# Altium schematic symbol library lm3886 Schlib.SchLib: 7 symbols
Pins are listed as number, name and electrical type; pins without a type are passive.

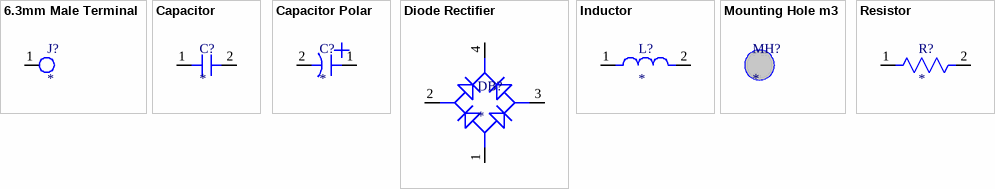
[diagram p0: symbols 6.3mm Male Terminal to Resistor]

## 6.3mm Male Terminal
designator J?
footprint Terminal 6.3mm male
pins: 1

## Capacitor
designator C?
footprint Capacitor P5 5x7.5mm
footprint Capacitor P5 2.4x4.4mm
footprint Capacitor P5 3x7.5mm
footprint Capacitor P15 7.2x18.3mm
pins: 1, 2

## Capacitor Polar
designator C?
footprint Capacitor electrolytic 5x11mm
footprint Capacitor electrolytic 10x16mm
footprint Capacitor electrolytic 16x21mm
footprint Capacitor electrolytic 25x41mm
footprint Capacitor electrolytic 6x11mm
pins: 1, 2

## Diode Rectifier
designator DB?
footprint KBPC rectifier
pins: 1, 2, 3, 4

## Inductor
designator L?
footprint Inductor p9
footprint Inductor p10
footprint Inductor p26
pins: 1, 2

## Mounting Hole m3
designator MH?
footprint Mounting Hole

## Resistor
designator R?
footprint Resistor 0207 1/4W
footprint Resistor 0617 2W
footprint Resistor 0617 2W Vertical
footprint Resistor 0823 5W
pins: 1, 2